# Altium footprint library Capacitor_THT.PcbLib: 378 footprints (part 20 of 24)
Each footprint in its own frame and in the unit in brackets; x right, y up, seen from the top. Pads: shape width x height; smd on the part's side, far side on the other; paste and mask are expansions set on the pad; w line width, h text height; cw(c..) or ccw(c..) is an arc to the next point about the centre after c.
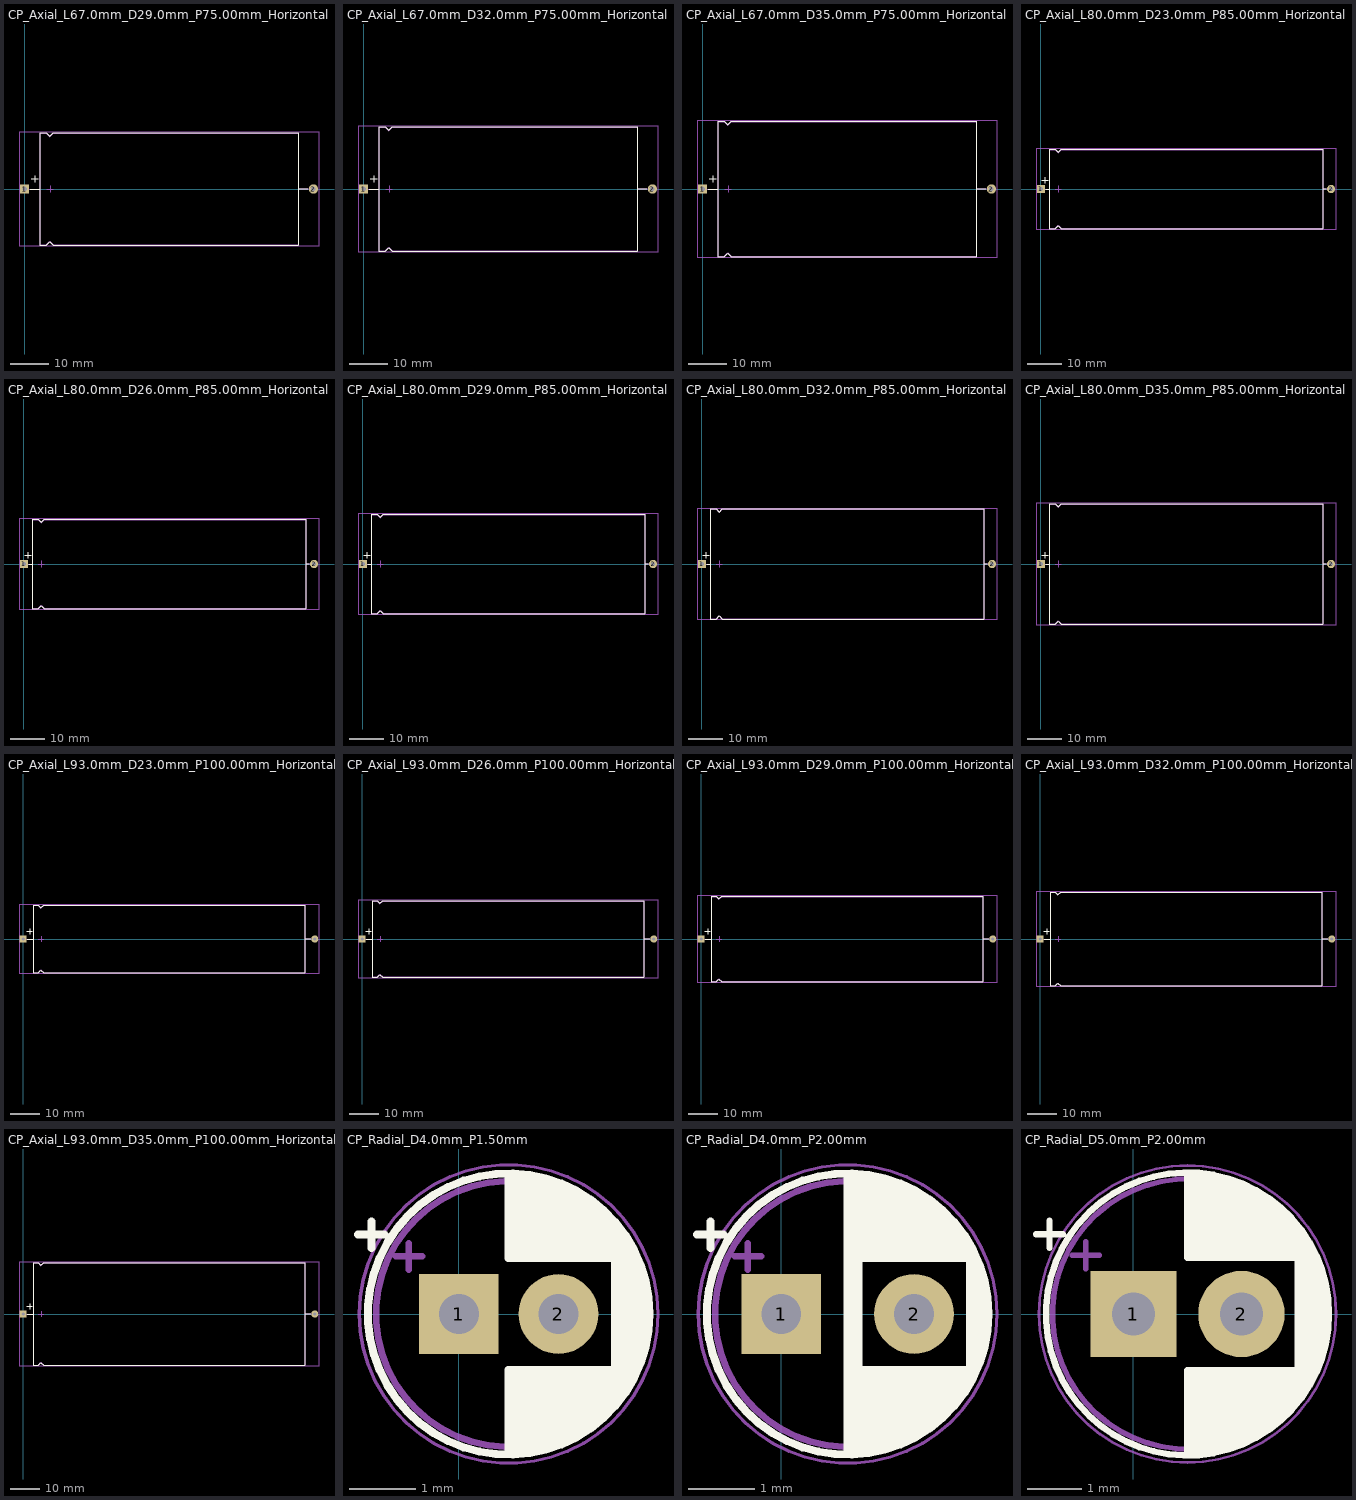
[diagram p19: the footprints below, top view; thin cyan lines are the x and y axes]

## CP_Axial_L67.0mm_D29.0mm_P75.00mm_Horizontal [mm]
pads (2):
  rect 2.4x2.4 hole 1.2: 1(0,0)
  rrect100% 2.4x2.4 hole 1.2: 2(75,0)
F.SilkS:
  lines w0.12: 1.44,0 3.88,0 ; 1.78,2.6 3.58,2.6 ; 2.68,1.7 2.68,3.5 ; 71.12,0 73.56,0 ; 3.88,-14.62 3.88,14.62 5.68,14.62 6.58,13.72 7.48,14.62 71.12,14.62 71.12,-14.62 7.48,-14.62 6.58,-13.72 5.68,-14.62 3.88,-14.62
F.CrtYd:
  lines w0.05: -1.45,-14.75 -1.45,14.75 76.45,14.75 76.45,-14.75 -1.45,-14.75
F.Fab:
  lines w0.1: 0,0 4,0 ; 5.7,0 7.5,0 ; 6.6,-0.9 6.6,0.9 ; 71,0 75,0 ; 4,-14.5 4,14.5 5.68,14.5 6.58,13.6 7.48,14.5 71,14.5 71,-14.5 7.48,-14.5 6.58,-13.6 5.68,-14.5 4,-14.5
  text "'.Designator'" at 33.453,-0.84 h1

## CP_Axial_L67.0mm_D32.0mm_P75.00mm_Horizontal [mm]
pads (2):
  rect 2.4x2.4 hole 1.2: 1(0,0)
  rrect100% 2.4x2.4 hole 1.2: 2(75,0)
F.SilkS:
  lines w0.12: 1.44,0 3.88,0 ; 1.78,2.6 3.58,2.6 ; 2.68,1.7 2.68,3.5 ; 71.12,0 73.56,0 ; 3.88,-16.12 3.88,16.12 5.68,16.12 6.58,15.22 7.48,16.12 71.12,16.12 71.12,-16.12 7.48,-16.12 6.58,-15.22 5.68,-16.12 3.88,-16.12
F.CrtYd:
  lines w0.05: -1.45,-16.25 76.45,-16.25 76.45,16.25 -1.45,16.25 -1.45,-16.25
F.Fab:
  lines w0.1: 0,0 4,0 ; 5.7,0 7.5,0 ; 6.6,-0.9 6.6,0.9 ; 71,0 75,0 ; 4,-16 4,16 5.68,16 6.58,15.1 7.48,16 71,16 71,-16 7.48,-16 6.58,-15.1 5.68,-16 4,-16
  text "'.Designator'" at 33.453,-0.84 h1

## CP_Axial_L67.0mm_D35.0mm_P75.00mm_Horizontal [mm]
pads (2):
  rect 2.4x2.4 hole 1.2: 1(0,0)
  rrect100% 2.4x2.4 hole 1.2: 2(75,0)
F.SilkS:
  lines w0.12: 1.44,0 3.88,0 ; 1.78,2.6 3.58,2.6 ; 2.68,1.7 2.68,3.5 ; 71.12,0 73.56,0 ; 3.88,-17.62 3.88,17.62 5.68,17.62 6.58,16.72 7.48,17.62 71.12,17.62 71.12,-17.62 7.48,-17.62 6.58,-16.72 5.68,-17.62 3.88,-17.62
F.CrtYd:
  lines w0.05: -1.45,-17.75 -1.45,17.75 76.45,17.75 76.45,-17.75 -1.45,-17.75
F.Fab:
  lines w0.1: 0,0 4,0 ; 5.7,0 7.5,0 ; 6.6,-0.9 6.6,0.9 ; 71,0 75,0 ; 4,-17.5 4,17.5 5.68,17.5 6.58,16.6 7.48,17.5 71,17.5 71,-17.5 7.48,-17.5 6.58,-16.6 5.68,-17.5 4,-17.5
  text "'.Designator'" at 33.453,-0.84 h1

## CP_Axial_L80.0mm_D23.0mm_P85.00mm_Horizontal [mm]
pads (2):
  rect 2.4x2.4 hole 1.2: 1(0,0)
  rrect100% 2.4x2.4 hole 1.2: 2(85,0)
F.SilkS:
  lines w0.12: 0.28,2.6 2.08,2.6 ; 1.18,1.7 1.18,3.5 ; 1.44,0 2.38,0 ; 82.62,0 83.56,0 ; 2.38,-11.62 2.38,11.62 4.18,11.62 5.08,10.72 5.98,11.62 82.62,11.62 82.62,-11.62 5.98,-11.62 5.08,-10.72 4.18,-11.62 2.38,-11.62
F.CrtYd:
  lines w0.05: -1.45,-11.75 86.45,-11.75 86.45,11.75 -1.45,11.75 -1.45,-11.75
F.Fab:
  lines w0.1: 0,0 2.5,0 ; 4.2,0 6,0 ; 5.1,-0.9 5.1,0.9 ; 82.5,0 85,0 ; 2.5,-11.5 2.5,11.5 4.18,11.5 5.08,10.6 5.98,11.5 82.5,11.5 82.5,-11.5 5.98,-11.5 5.08,-10.6 4.18,-11.5 2.5,-11.5
  text "'.Designator'" at 38.453,-0.84 h1

## CP_Axial_L80.0mm_D26.0mm_P85.00mm_Horizontal [mm]
pads (2):
  rect 2.4x2.4 hole 1.2: 1(0,0)
  rrect100% 2.4x2.4 hole 1.2: 2(85,0)
F.SilkS:
  lines w0.12: 0.28,2.6 2.08,2.6 ; 1.18,1.7 1.18,3.5 ; 1.44,0 2.38,0 ; 82.62,0 83.56,0 ; 2.38,-13.12 4.18,-13.12 5.08,-12.22 5.98,-13.12 82.62,-13.12 82.62,13.12 5.98,13.12 5.08,12.22 4.18,13.12 2.38,13.12 2.38,-13.12
F.CrtYd:
  lines w0.05: -1.45,-13.25 -1.45,13.25 86.45,13.25 86.45,-13.25 -1.45,-13.25
F.Fab:
  lines w0.1: 0,0 2.5,0 ; 4.2,0 6,0 ; 5.1,-0.9 5.1,0.9 ; 82.5,0 85,0 ; 2.5,-13 2.5,13 4.18,13 5.08,12.1 5.98,13 82.5,13 82.5,-13 5.98,-13 5.08,-12.1 4.18,-13 2.5,-13
  text "'.Designator'" at 38.453,-0.84 h1

## CP_Axial_L80.0mm_D29.0mm_P85.00mm_Horizontal [mm]
pads (2):
  rect 2.4x2.4 hole 1.2: 1(0,0)
  rrect100% 2.4x2.4 hole 1.2: 2(85,0)
F.SilkS:
  lines w0.12: 0.28,2.6 2.08,2.6 ; 1.18,1.7 1.18,3.5 ; 1.44,0 2.38,0 ; 82.62,0 83.56,0 ; 2.38,-14.62 2.38,14.62 4.18,14.62 5.08,13.72 5.98,14.62 82.62,14.62 82.62,-14.62 5.98,-14.62 5.08,-13.72 4.18,-14.62 2.38,-14.62
F.CrtYd:
  lines w0.05: -1.45,-14.75 -1.45,14.75 86.45,14.75 86.45,-14.75 -1.45,-14.75
F.Fab:
  lines w0.1: 0,0 2.5,0 ; 4.2,0 6,0 ; 5.1,-0.9 5.1,0.9 ; 82.5,0 85,0 ; 2.5,-14.5 2.5,14.5 4.18,14.5 5.08,13.6 5.98,14.5 82.5,14.5 82.5,-14.5 5.98,-14.5 5.08,-13.6 4.18,-14.5 2.5,-14.5
  text "'.Designator'" at 38.453,-0.84 h1

## CP_Axial_L80.0mm_D32.0mm_P85.00mm_Horizontal [mm]
pads (2):
  rect 2.4x2.4 hole 1.2: 1(0,0)
  rrect100% 2.4x2.4 hole 1.2: 2(85,0)
F.SilkS:
  lines w0.12: 0.28,2.6 2.08,2.6 ; 1.18,1.7 1.18,3.5 ; 1.44,0 2.38,0 ; 82.62,0 83.56,0 ; 2.38,-16.12 4.18,-16.12 5.08,-15.22 5.98,-16.12 82.62,-16.12 82.62,16.12 5.98,16.12 5.08,15.22 4.18,16.12 2.38,16.12 2.38,-16.12
F.CrtYd:
  lines w0.05: -1.45,-16.25 -1.45,16.25 86.45,16.25 86.45,-16.25 -1.45,-16.25
F.Fab:
  lines w0.1: 0,0 2.5,0 ; 4.2,0 6,0 ; 5.1,-0.9 5.1,0.9 ; 82.5,0 85,0 ; 2.5,-16 2.5,16 4.18,16 5.08,15.1 5.98,16 82.5,16 82.5,-16 5.98,-16 5.08,-15.1 4.18,-16 2.5,-16
  text "'.Designator'" at 38.453,-0.84 h1

## CP_Axial_L80.0mm_D35.0mm_P85.00mm_Horizontal [mm]
pads (2):
  rect 2.4x2.4 hole 1.2: 1(0,0)
  rrect100% 2.4x2.4 hole 1.2: 2(85,0)
F.SilkS:
  lines w0.12: 0.28,2.6 2.08,2.6 ; 1.18,1.7 1.18,3.5 ; 1.44,0 2.38,0 ; 82.62,0 83.56,0 ; 2.38,-17.62 2.38,17.62 4.18,17.62 5.08,16.72 5.98,17.62 82.62,17.62 82.62,-17.62 5.98,-17.62 5.08,-16.72 4.18,-17.62 2.38,-17.62
F.CrtYd:
  lines w0.05: -1.45,-17.75 -1.45,17.75 86.45,17.75 86.45,-17.75 -1.45,-17.75
F.Fab:
  lines w0.1: 0,0 2.5,0 ; 4.2,0 6,0 ; 5.1,-0.9 5.1,0.9 ; 82.5,0 85,0 ; 2.5,-17.5 4.18,-17.5 5.08,-16.6 5.98,-17.5 82.5,-17.5 82.5,17.5 5.98,17.5 5.08,16.6 4.18,17.5 2.5,17.5 2.5,-17.5
  text "'.Designator'" at 38.453,-0.84 h1

## CP_Axial_L93.0mm_D23.0mm_P100.00mm_Horizontal [mm]
pads (2):
  rect 2.4x2.4 hole 1.2: 1(0,0)
  rrect100% 2.4x2.4 hole 1.2: 2(100,0)
F.SilkS:
  lines w0.12: 1.28,2.6 3.08,2.6 ; 1.44,0 3.38,0 ; 2.18,1.7 2.18,3.5 ; 96.62,0 98.56,0 ; 3.38,-11.62 3.38,11.62 5.18,11.62 6.08,10.72 6.98,11.62 96.62,11.62 96.62,-11.62 6.98,-11.62 6.08,-10.72 5.18,-11.62 3.38,-11.62
F.CrtYd:
  lines w0.05: -1.45,-11.75 -1.45,11.75 101.45,11.75 101.45,-11.75 -1.45,-11.75
F.Fab:
  lines w0.1: 0,0 3.5,0 ; 5.2,0 7,0 ; 6.1,-0.9 6.1,0.9 ; 96.5,0 100,0 ; 3.5,-11.5 5.18,-11.5 6.08,-10.6 6.98,-11.5 96.5,-11.5 96.5,11.5 6.98,11.5 6.08,10.6 5.18,11.5 3.5,11.5 3.5,-11.5
  text "'.Designator'" at 45.953,-0.84 h1

## CP_Axial_L93.0mm_D26.0mm_P100.00mm_Horizontal [mm]
pads (2):
  rect 2.4x2.4 hole 1.2: 1(0,0)
  rrect100% 2.4x2.4 hole 1.2: 2(100,0)
F.SilkS:
  lines w0.12: 1.28,2.6 3.08,2.6 ; 1.44,0 3.38,0 ; 2.18,1.7 2.18,3.5 ; 96.62,0 98.56,0 ; 3.38,-13.12 3.38,13.12 5.18,13.12 6.08,12.22 6.98,13.12 96.62,13.12 96.62,-13.12 6.98,-13.12 6.08,-12.22 5.18,-13.12 3.38,-13.12
F.CrtYd:
  lines w0.05: -1.45,-13.25 -1.45,13.25 101.45,13.25 101.45,-13.25 -1.45,-13.25
F.Fab:
  lines w0.1: 0,0 3.5,0 ; 5.2,0 7,0 ; 6.1,-0.9 6.1,0.9 ; 96.5,0 100,0 ; 3.5,-13 3.5,13 5.18,13 6.08,12.1 6.98,13 96.5,13 96.5,-13 6.98,-13 6.08,-12.1 5.18,-13 3.5,-13
  text "'.Designator'" at 45.953,-0.84 h1

## CP_Axial_L93.0mm_D29.0mm_P100.00mm_Horizontal [mm]
pads (2):
  rect 2.4x2.4 hole 1.2: 1(0,0)
  rrect100% 2.4x2.4 hole 1.2: 2(100,0)
F.SilkS:
  lines w0.12: 1.28,2.6 3.08,2.6 ; 1.44,0 3.38,0 ; 2.18,1.7 2.18,3.5 ; 96.62,0 98.56,0 ; 3.38,-14.62 5.18,-14.62 6.08,-13.72 6.98,-14.62 96.62,-14.62 96.62,14.62 6.98,14.62 6.08,13.72 5.18,14.62 3.38,14.62 3.38,-14.62
F.CrtYd:
  lines w0.05: -1.45,-14.75 -1.45,14.75 101.45,14.75 101.45,-14.75 -1.45,-14.75
F.Fab:
  lines w0.1: 0,0 3.5,0 ; 5.2,0 7,0 ; 6.1,-0.9 6.1,0.9 ; 96.5,0 100,0 ; 3.5,-14.5 5.18,-14.5 6.08,-13.6 6.98,-14.5 96.5,-14.5 96.5,14.5 6.98,14.5 6.08,13.6 5.18,14.5 3.5,14.5 3.5,-14.5
  text "'.Designator'" at 45.953,-0.84 h1

## CP_Axial_L93.0mm_D32.0mm_P100.00mm_Horizontal [mm]
pads (2):
  rect 2.4x2.4 hole 1.2: 1(0,0)
  rrect100% 2.4x2.4 hole 1.2: 2(100,0)
F.SilkS:
  lines w0.12: 1.28,2.6 3.08,2.6 ; 1.44,0 3.38,0 ; 2.18,1.7 2.18,3.5 ; 96.62,0 98.56,0 ; 3.38,-16.12 5.18,-16.12 6.08,-15.22 6.98,-16.12 96.62,-16.12 96.62,16.12 6.98,16.12 6.08,15.22 5.18,16.12 3.38,16.12 3.38,-16.12
F.CrtYd:
  lines w0.05: -1.45,-16.25 101.45,-16.25 101.45,16.25 -1.45,16.25 -1.45,-16.25
F.Fab:
  lines w0.1: 0,0 3.5,0 ; 5.2,0 7,0 ; 6.1,-0.9 6.1,0.9 ; 96.5,0 100,0 ; 3.5,-16 5.18,-16 6.08,-15.1 6.98,-16 96.5,-16 96.5,16 6.98,16 6.08,15.1 5.18,16 3.5,16 3.5,-16
  text "'.Designator'" at 45.953,-0.84 h1

## CP_Axial_L93.0mm_D35.0mm_P100.00mm_Horizontal [mm]
pads (2):
  rect 2.4x2.4 hole 1.2: 1(0,0)
  rrect100% 2.4x2.4 hole 1.2: 2(100,0)
F.SilkS:
  lines w0.12: 1.28,2.6 3.08,2.6 ; 1.44,0 3.38,0 ; 2.18,1.7 2.18,3.5 ; 96.62,0 98.56,0 ; 3.38,-17.62 3.38,17.62 5.18,17.62 6.08,16.72 6.98,17.62 96.62,17.62 96.62,-17.62 6.98,-17.62 6.08,-16.72 5.18,-17.62 3.38,-17.62
F.CrtYd:
  lines w0.05: -1.45,-17.75 101.45,-17.75 101.45,17.75 -1.45,17.75 -1.45,-17.75
F.Fab:
  lines w0.1: 0,0 3.5,0 ; 5.2,0 7,0 ; 6.1,-0.9 6.1,0.9 ; 96.5,0 100,0 ; 3.5,-17.5 3.5,17.5 5.18,17.5 6.08,16.6 6.98,17.5 96.5,17.5 96.5,-17.5 6.98,-17.5 6.08,-16.6 5.18,-17.5 3.5,-17.5
  text "'.Designator'" at 45.953,-0.84 h1

## CP_Radial_D4.0mm_P1.50mm [mm]
pads (2):
  rect 1.2x1.2 hole 0.6: 1(0,0)
  round 1.2 hole 0.6: 2(1.5,0)
F.SilkS:
  circle w0.12: c0.75,0 r2.12
  lines w0.12: -1.52,1.195 -1.12,1.195 ; -1.32,0.995 -1.32,1.395 ; 0.75,-2.08 0.75,-0.84 ; 0.75,0.84 0.75,2.08 ; 0.79,-2.08 0.79,-0.84 ; 0.79,0.84 0.79,2.08 ; 0.83,-2.079 0.83,-0.84 ; 0.83,0.84 0.83,2.079 ; 0.87,-2.077 0.87,-0.84 ; 0.87,0.84 0.87,2.077 ; 0.91,-2.074 0.91,-0.84 ; 0.91,0.84 0.91,2.074 ; 0.95,-2.071 0.95,-0.84 ; 0.95,0.84 0.95,2.071 ; 0.99,-2.067 0.99,-0.84 ; 0.99,0.84 0.99,2.067 ; 1.03,-2.062 1.03,-0.84 ; 1.03,0.84 1.03,2.062 ; 1.07,-2.056 1.07,-0.84 ; 1.07,0.84 1.07,2.056 ; 1.11,-2.05 1.11,-0.84 ; 1.11,0.84 1.11,2.05 ; 1.15,-2.042 1.15,-0.84 ; 1.15,0.84 1.15,2.042 ; 1.19,-2.034 1.19,-0.84 ; 1.19,0.84 1.19,2.034 ; 1.23,-2.025 1.23,-0.84 ; 1.23,0.84 1.23,2.025 ; 1.27,-2.016 1.27,-0.84 ; 1.27,0.84 1.27,2.016 ; 1.31,-2.005 1.31,-0.84 ; 1.31,0.84 1.31,2.005 ; 1.35,-1.994 1.35,-0.84 ; 1.35,0.84 1.35,1.994 ; 1.39,-1.982 1.39,-0.84 ; 1.39,0.84 1.39,1.982 ; 1.43,-1.968 1.43,-0.84 ; 1.43,0.84 1.43,1.968 ; 1.471,-1.954 1.471,-0.84 ; 1.471,0.84 1.471,1.954 ; 1.511,-1.94 1.511,-0.84 ; 1.511,0.84 1.511,1.94 ; 1.551,-1.924 1.551,-0.84 ; 1.551,0.84 1.551,1.924 ; 1.591,-1.907 1.591,-0.84 ; 1.591,0.84 1.591,1.907 ; 1.631,-1.889 1.631,-0.84 ; 1.631,0.84 1.631,1.889 ; 1.671,-1.87 1.671,-0.84 ; 1.671,0.84 1.671,1.87 ; 1.711,-1.851 1.711,-0.84 ; 1.711,0.84 1.711,1.851 ; 1.751,-1.83 1.751,-0.84 ; 1.751,0.84 1.751,1.83 ; 1.791,-1.808 1.791,-0.84 ; 1.791,0.84 1.791,1.808 ; 1.831,-1.785 1.831,-0.84 ; 1.831,0.84 1.831,1.785 ; 1.871,-1.76 1.871,-0.84 ; 1.871,0.84 1.871,1.76 ; 1.911,-1.735 1.911,-0.84 ; 1.911,0.84 1.911,1.735 ; 1.951,-1.708 1.951,-0.84 ; 1.951,0.84 1.951,1.708 ; 1.991,-1.68 1.991,-0.84 ; 1.991,0.84 1.991,1.68 ; 2.031,-1.65 2.031,-0.84 ; 2.031,0.84 2.031,1.65 ; 2.071,-1.619 2.071,-0.84 ; 2.071,0.84 2.071,1.619 ; 2.111,-1.587 2.111,-0.84 ; 2.111,0.84 2.111,1.587 ; 2.151,-1.552 2.151,-0.84 ; 2.151,0.84 2.151,1.552 ; 2.191,-1.516 2.191,-0.84 ; 2.191,0.84 2.191,1.516 ; 2.231,-1.478 2.231,-0.84 ; 2.231,0.84 2.231,1.478 ; 2.271,-1.438 2.271,-0.84 ; 2.271,0.84 2.271,1.438 ; 2.311,-1.396 2.311,-0.84 ; 2.311,0.84 2.311,1.396 ; 2.351,-1.351 2.351,1.351 ; 2.391,-1.304 2.391,1.304 ; 2.431,-1.254 2.431,1.254 ; 2.471,-1.2 2.471,1.2 ; 2.511,-1.142 2.511,1.142 ; 2.551,-1.08 2.551,1.08 ; 2.591,-1.013 2.591,1.013 ; 2.631,-0.94 2.631,0.94 ; 2.671,-0.859 2.671,0.859 ; 2.711,-0.768 2.711,0.768 ; 2.751,-0.664 2.751,0.664 ; 2.791,-0.537 2.791,0.537 ; 2.831,-0.37 2.831,0.37
F.CrtYd:
  circle w0.05: c0.75,0 r2.25
F.Fab:
  circle w0.1: c0.75,0 r2
  lines w0.1: -0.953,0.867 -0.553,0.867 ; -0.753,0.667 -0.753,1.068
  text "'.Designator'" at -2.487,-0.672 h0.8

## CP_Radial_D4.0mm_P2.00mm [mm]
pads (2):
  rect 1.2x1.2 hole 0.6: 1(0,0)
  round 1.2 hole 0.6: 2(2,0)
F.SilkS:
  circle w0.12: c1,0 r2.12
  lines w0.12: -1.27,1.195 -0.87,1.195 ; -1.07,0.995 -1.07,1.395 ; 1,-2.08 1,2.08 ; 1.04,-2.08 1.04,2.08 ; 1.08,-2.079 1.08,2.079 ; 1.12,-2.077 1.12,2.077 ; 1.16,-2.074 1.16,2.074 ; 1.2,-2.071 1.2,-0.84 ; 1.2,0.84 1.2,2.071 ; 1.24,-2.067 1.24,-0.84 ; 1.24,0.84 1.24,2.067 ; 1.28,-2.062 1.28,-0.84 ; 1.28,0.84 1.28,2.062 ; 1.32,-2.056 1.32,-0.84 ; 1.32,0.84 1.32,2.056 ; 1.36,-2.05 1.36,-0.84 ; 1.36,0.84 1.36,2.05 ; 1.4,-2.042 1.4,-0.84 ; 1.4,0.84 1.4,2.042 ; 1.44,-2.034 1.44,-0.84 ; 1.44,0.84 1.44,2.034 ; 1.48,-2.025 1.48,-0.84 ; 1.48,0.84 1.48,2.025 ; 1.52,-2.016 1.52,-0.84 ; 1.52,0.84 1.52,2.016 ; 1.56,-2.005 1.56,-0.84 ; 1.56,0.84 1.56,2.005 ; 1.6,-1.994 1.6,-0.84 ; 1.6,0.84 1.6,1.994 ; 1.64,-1.982 1.64,-0.84 ; 1.64,0.84 1.64,1.982 ; 1.68,-1.968 1.68,-0.84 ; 1.68,0.84 1.68,1.968 ; 1.721,-1.954 1.721,-0.84 ; 1.721,0.84 1.721,1.954 ; 1.761,-1.94 1.761,-0.84 ; 1.761,0.84 1.761,1.94 ; 1.801,-1.924 1.801,-0.84 ; 1.801,0.84 1.801,1.924 ; 1.841,-1.907 1.841,-0.84 ; 1.841,0.84 1.841,1.907 ; 1.881,-1.889 1.881,-0.84 ; 1.881,0.84 1.881,1.889 ; 1.921,-1.87 1.921,-0.84 ; 1.921,0.84 1.921,1.87 ; 1.961,-1.851 1.961,-0.84 ; 1.961,0.84 1.961,1.851 ; 2.001,-1.83 2.001,-0.84 ; 2.001,0.84 2.001,1.83 ; 2.041,-1.808 2.041,-0.84 ; 2.041,0.84 2.041,1.808 ; 2.081,-1.785 2.081,-0.84 ; 2.081,0.84 2.081,1.785 ; 2.121,-1.76 2.121,-0.84 ; 2.121,0.84 2.121,1.76 ; 2.161,-1.735 2.161,-0.84 ; 2.161,0.84 2.161,1.735 ; 2.201,-1.708 2.201,-0.84 ; 2.201,0.84 2.201,1.708 ; 2.241,-1.68 2.241,-0.84 ; 2.241,0.84 2.241,1.68 ; 2.281,-1.65 2.281,-0.84 ; 2.281,0.84 2.281,1.65 ; 2.321,-1.619 2.321,-0.84 ; 2.321,0.84 2.321,1.619 ; 2.361,-1.587 2.361,-0.84 ; 2.361,0.84 2.361,1.587 ; 2.401,-1.552 2.401,-0.84 ; 2.401,0.84 2.401,1.552 ; 2.441,-1.516 2.441,-0.84 ; 2.441,0.84 2.441,1.516 ; 2.481,-1.478 2.481,-0.84 ; 2.481,0.84 2.481,1.478 ; 2.521,-1.438 2.521,-0.84 ; 2.521,0.84 2.521,1.438 ; 2.561,-1.396 2.561,-0.84 ; 2.561,0.84 2.561,1.396 ; 2.601,-1.351 2.601,-0.84 ; 2.601,0.84 2.601,1.351 ; 2.641,-1.304 2.641,-0.84 ; 2.641,0.84 2.641,1.304 ; 2.681,-1.254 2.681,-0.84 ; 2.681,0.84 2.681,1.254 ; 2.721,-1.2 2.721,-0.84 ; 2.721,0.84 2.721,1.2 ; 2.761,-1.142 2.761,-0.84 ; 2.761,0.84 2.761,1.142 ; 2.801,-1.08 2.801,-0.84 ; 2.801,0.84 2.801,1.08 ; 2.841,-1.013 2.841,1.013 ; 2.881,-0.94 2.881,0.94 ; 2.921,-0.859 2.921,0.859 ; 2.961,-0.768 2.961,0.768 ; 3.001,-0.664 3.001,0.664 ; 3.041,-0.537 3.041,0.537 ; 3.081,-0.37 3.081,0.37
F.CrtYd:
  circle w0.05: c1,0 r2.25
F.Fab:
  circle w0.1: c1,0 r2
  lines w0.1: -0.703,0.867 -0.303,0.867 ; -0.503,0.667 -0.503,1.068
  text "'.Designator'" at -2.237,-0.672 h0.8

## CP_Radial_D5.0mm_P2.00mm [mm]
pads (2):
  rect 1.6x1.6 hole 0.8: 1(0,0)
  round 1.6 hole 0.8: 2(2,0)
F.SilkS:
  circle w0.12: c1,0 r2.62
  lines w0.12: -1.805,1.475 -1.305,1.475 ; -1.555,1.225 -1.555,1.725 ; 1,-2.58 1,-1.04 ; 1,1.04 1,2.58 ; 1.04,-2.58 1.04,-1.04 ; 1.04,1.04 1.04,2.58 ; 1.08,-2.579 1.08,-1.04 ; 1.08,1.04 1.08,2.579 ; 1.12,-2.578 1.12,-1.04 ; 1.12,1.04 1.12,2.578 ; 1.16,-2.576 1.16,-1.04 ; 1.16,1.04 1.16,2.576 ; 1.2,-2.573 1.2,-1.04 ; 1.2,1.04 1.2,2.573 ; 1.24,-2.569 1.24,-1.04 ; 1.24,1.04 1.24,2.569 ; 1.28,-2.565 1.28,-1.04 ; 1.28,1.04 1.28,2.565 ; 1.32,-2.561 1.32,-1.04 ; 1.32,1.04 1.32,2.561 ; 1.36,-2.556 1.36,-1.04 ; 1.36,1.04 1.36,2.556 ; 1.4,-2.55 1.4,-1.04 ; 1.4,1.04 1.4,2.55 ; 1.44,-2.543 1.44,-1.04 ; 1.44,1.04 1.44,2.543 ; 1.48,-2.536 1.48,-1.04 ; 1.48,1.04 1.48,2.536 ; 1.52,-2.528 1.52,-1.04 ; 1.52,1.04 1.52,2.528 ; 1.56,-2.52 1.56,-1.04 ; 1.56,1.04 1.56,2.52 ; 1.6,-2.511 1.6,-1.04 ; 1.6,1.04 1.6,2.511 ; 1.64,-2.501 1.64,-1.04 ; 1.64,1.04 1.64,2.501 ; 1.68,-2.491 1.68,-1.04 ; 1.68,1.04 1.68,2.491 ; 1.721,-2.48 1.721,-1.04 ; 1.721,1.04 1.721,2.48 ; 1.761,-2.468 1.761,-1.04 ; 1.761,1.04 1.761,2.468 ; 1.801,-2.455 1.801,-1.04 ; 1.801,1.04 1.801,2.455 ; 1.841,-2.442 1.841,-1.04 ; 1.841,1.04 1.841,2.442 ; 1.881,-2.428 1.881,-1.04 ; 1.881,1.04 1.881,2.428 ; 1.921,-2.414 1.921,-1.04 ; 1.921,1.04 1.921,2.414 ; 1.961,-2.398 1.961,-1.04 ; 1.961,1.04 1.961,2.398 ; 2.001,-2.382 2.001,-1.04 ; 2.001,1.04 2.001,2.382 ; 2.041,-2.365 2.041,-1.04 ; 2.041,1.04 2.041,2.365 ; 2.081,-2.348 2.081,-1.04 ; 2.081,1.04 2.081,2.348 ; 2.121,-2.329 2.121,-1.04 ; 2.121,1.04 2.121,2.329 ; 2.161,-2.31 2.161,-1.04 ; 2.161,1.04 2.161,2.31 ; 2.201,-2.29 2.201,-1.04 ; 2.201,1.04 2.201,2.29 ; 2.241,-2.268 2.241,-1.04 ; 2.241,1.04 2.241,2.268 ; 2.281,-2.247 2.281,-1.04 ; 2.281,1.04 2.281,2.247 ; 2.321,-2.224 2.321,-1.04 ; 2.321,1.04 2.321,2.224 ; 2.361,-2.2 2.361,-1.04 ; 2.361,1.04 2.361,2.2 ; 2.401,-2.175 2.401,-1.04 ; 2.401,1.04 2.401,2.175 ; 2.441,-2.149 2.441,-1.04 ; 2.441,1.04 2.441,2.149 ; 2.481,-2.122 2.481,-1.04 ; 2.481,1.04 2.481,2.122 ; 2.521,-2.095 2.521,-1.04 ; 2.521,1.04 2.521,2.095 ; 2.561,-2.065 2.561,-1.04 ; 2.561,1.04 2.561,2.065 ; 2.601,-2.035 2.601,-1.04 ; 2.601,1.04 2.601,2.035 ; 2.641,-2.004 2.641,-1.04 ; 2.641,1.04 2.641,2.004 ; 2.681,-1.971 2.681,-1.04 ; 2.681,1.04 2.681,1.971 ; 2.721,-1.937 2.721,-1.04 ; 2.721,1.04 2.721,1.937 ; 2.761,-1.901 2.761,-1.04 ; 2.761,1.04 2.761,1.901 ; 2.801,-1.864 2.801,-1.04 ; 2.801,1.04 2.801,1.864 ; 2.841,-1.826 2.841,-1.04 ; 2.841,1.04 2.841,1.826 ; 2.881,-1.785 2.881,-1.04 ; 2.881,1.04 2.881,1.785 ; 2.921,-1.743 2.921,-1.04 ; 2.921,1.04 2.921,1.743 ; 2.961,-1.699 2.961,-1.04 ; 2.961,1.04 2.961,1.699 ; 3.001,-1.653 3.001,-1.04 ; 3.001,1.04 3.001,1.653 ; 3.041,-1.605 3.041,1.605 ; 3.081,-1.554 3.081,1.554 ; 3.121,-1.5 3.121,1.5 ; 3.161,-1.443 3.161,1.443 ; 3.201,-1.383 3.201,1.383 ; 3.241,-1.319 3.241,1.319 ; 3.281,-1.251 3.281,1.251 ; 3.321,-1.178 3.321,1.178 ; 3.361,-1.098 3.361,1.098 ; 3.401,-1.011 3.401,1.011 ; 3.441,-0.915 3.441,0.915 ; 3.481,-0.805 3.481,0.805 ; 3.521,-0.677 3.521,0.677 ; 3.561,-0.518 3.561,0.518 ; 3.601,-0.284 3.601,0.284
F.CrtYd:
  circle w0.05: c1,0 r2.75
F.Fab:
  circle w0.1: c1,0 r2.5
  lines w0.1: -1.134,1.088 -0.634,1.088 ; -0.884,0.837 -0.884,1.338
  text "'.Designator'" at -3.047,-0.84 h1